# EAGLE library part BME688 (library BME688)
Gas sensor measuring relative humidity, barometric pressure, ambient temperature and gas (VOC) Source: Datasheet <https://www.bosch-sensortec.com/media/boschsensortec/downloads/datasheets/bst-bme688-ds000.pdf>
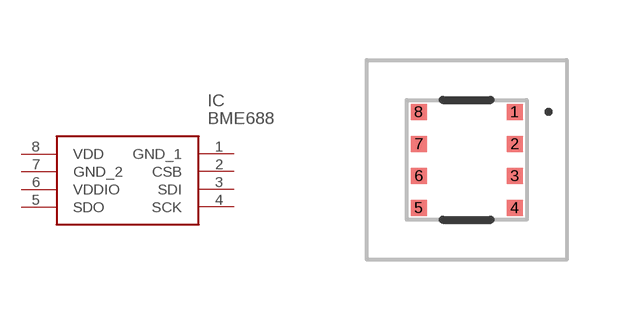
[diagram p0: symbol with the pads of BME688; footprint BME688]

Designator prefix IC

## BME688 (Arrow_Part_Number: BME688; Arrow_Price-Stock: https://www.arrow.com/en/products/bme688/bosch-sensortec?utm_currency=USD&region=nac; Description: Gas sensor measuring relative humidity, barometric pressure, ambient temperature and gas (VOC); Height: 1mm; Manufacturer_Name: BOSCH; Manufacturer_Part_Number: BME688; Mouser_Part_Number: 262-BME688; Mouser_Price-Stock: https://www.mouser.co.uk/ProductDetail/Bosch-Sensortec/BME688?qs=IS%252B4QmGtzzqQoVDscqwx3A%3D%3D)  [BME688]
1  GND_1
2  CSB
3  SDI
4  SCK
5  SDO
6  VDDIO
7  GND_2
8  VDD

## Footprint BME688 (pad centres in mm)
BME688-8
smd 0.4 x 0.4: 1 1.2,1.2; 2 1.2,0.4; 3 1.2,-0.4; 4 1.2,-1.2; 5 -1.2,-1.2; 6 -1.2,-0.4; 7 -1.2,0.4; 8 -1.2,1.2